# Altium schematic symbol library Schlib1.SchLib: 151 symbols (part 2 of 2)
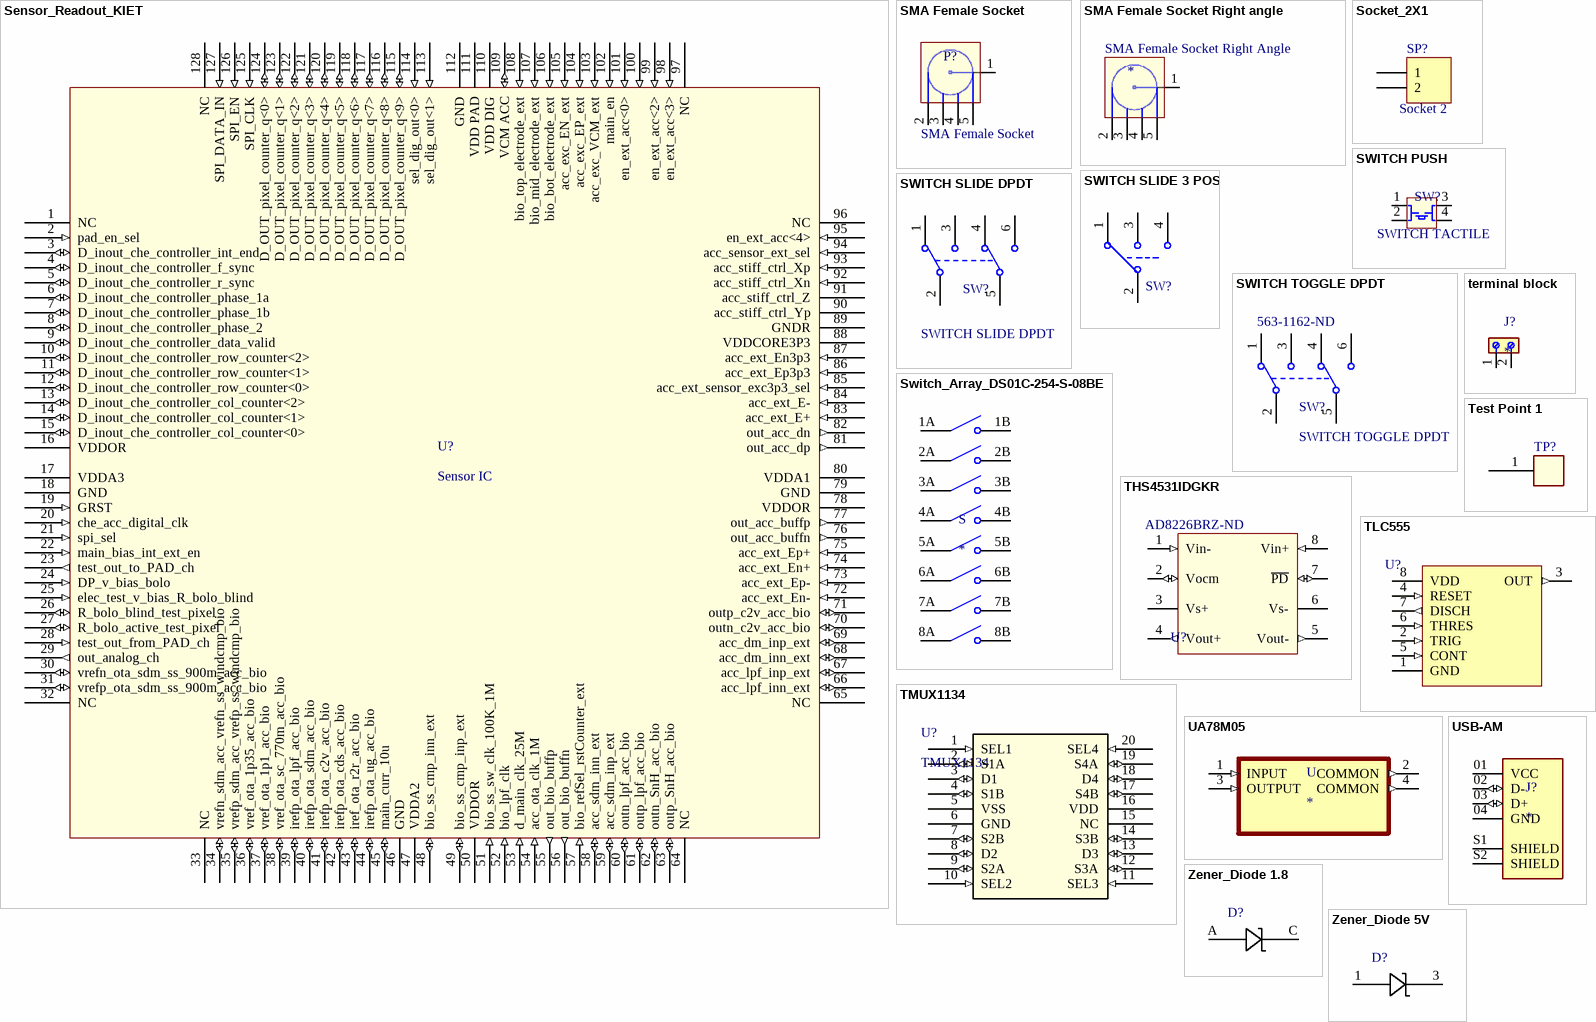
[diagram p5: symbols Sensor_Readout_KIET to Zener_Diode 5V]

## Sensor_Readout_KIET
designator U?, comment Sensor IC
Top Level Symbol of Sensor Readout IC
footprint Sensor_Readout_Kiet_CQFP_128 (CQFP, 148-Leads, Body 31.89x31.89mm, Pitch 0.80mm, IPC High Density)
pins: 1 NC "No Connect", 2 pad_en_sel (in) "Select Bit of PAD en", 3 D_inout_che_controller_int_end (io) "Integrator  End from Chemical controller for CHE", 4 D_inout_che_controller_f_sync (io) "Frame Sync from Chemical controller for CHE", 5 D_inout_che_controller_r_sync (io) "Row Sync from Chemical controller for CHE", 6 D_inout_che_controller_phase_1a (io) "Phase 1a from Chemical controller for CHE", 7 D_inout_che_controller_phase_1b (io) "Phase 1b from Chemical controller for CHE", 8 D_inout_che_controller_phase_2 (io) "Phase 2 from Chemical controller for CHE", 9 D_inout_che_controller_data_valid (io) "Data Valid from Chemical controller for CHE", 10 D_inout_che_controller_row_counter<2> (io) "Row Counter from Chemical Controller for CHE", 11 D_inout_che_controller_row_counter<1> (io) "Row Counter from Chemical Controller for CHE", 12 D_inout_che_controller_row_counter<0> (io) "Row Counter from Chemical Controller for CHE", 13 D_inout_che_controller_col_counter<2> (io) "Coloumn Counter from Chemical Controller for CHE", 14 D_inout_che_controller_col_counter<1> (io) "Coloumn Counter from Chemical Controller for CHE", 15 D_inout_che_controller_col_counter<0> (io) "Coloumn Counter from Chemical Controller for CHE", 16 VDDOR (power) "PAD Power Supply", 17 VDDA3 (power) "Analog Power Supply 1", 18 GND (power) "Common Ground", 19 GRST (in) "Global Reset of Chip", 20 che_acc_digital_clk (in) "Clock of 1MHz for Chemical Digital controller and ACC Excitation", 21 spi_sel (in) "Select bit for SPI", 22 main_bias_int_ext_en (in) "Select bit for Bias Internald or External", 23 test_out_to_PAD_ch (out) "Outputs of CDS, analog and Digital Integrator from CHE", 24 DP_v_bias_bolo (in) "Reference Voltage for DP bias Bolo for CHE", 25 elec_test_v_bias_R_bolo_blind (in) "Reference Voltage for R bolo elecrical test for CHE", 26 R_bolo_blind_test_pixel (io) "CMOS,  analog and Digital R bolo blind test pixel from CHE", 27 R_bolo_active_test_pixel (io) "CMOS,  analog and Digital R bolo active test pixel from CHE", 28 test_out_from_PAD_ch (in) "Input of CMOS, analog and Digital Integrator from CHE", 29 out_analog_ch (out) "Buffered output from CHE", 30 vrefn_ota_sdm_ss_900m_acc_bio (io) "Reference Voltage for Various Blocks", 31 vrefp_ota_sdm_ss_900m_acc_bio (io) "Reference Voltage for Various Blocks", 32 NC "No Connect", 33 NC "No Connect", 34 vrefn_sdm_acc_vrefn_ss_windcmp_bio (io) "Reference Voltage for Various Blocks", 35 vrefp_sdm_acc_vrefp_ss_windcmp_bio (io) "Reference Voltage for Various Blocks", 36 vref_ota_1p35_acc_bio (io) "Reference Voltage for Various Blocks", 37 vref_ota_1p1_acc_bio (io) "Reference Voltage for Various Blocks", 38 vref_ota_sc_770m_acc_bio (io) "Reference Voltage for Various Blocks", 39 irefp_ota_lpf_acc_bio (io) "External Currents for Various Blocks", 40 irefp_ota_sdm_acc_bio (io) "External Currents for Various Blocks", 41 irefp_ota_c2v_acc_bio (io) "External Currents for Various Blocks", 42 irefp_ota_cds_acc_bio (io) "External Currents for Various Blocks", 43 iref_ota_r2r_acc_bio (io) "External Current of Output Buffer for Various Blocks", 44 irefp_ota_ug_acc_bio (io) "External Currents for Various Blocks", 45 main_curr_10u (io) "Extenal Main Current of Bias", 46 GND (power) "Common Ground", 47 VDDA2 (power) "Analog Power Supply 1", 48 bio_ss_cmp_inn_ext (io) "External input to BIO comparator", 49 bio_ss_cmp_inp_ext (io) "External input to BIO comparator", 50 VDDOR (power) "PAD Power Supply", 51 bio_ss_sw_clk_100K_1M (in) "Clock of 100KHz-1MHz for Single slope in BIO", 52 bio_lpf_clk (in) "Clock of 1MHz for LPF for BIO", 53 d_main_clk_25M (in) "Clock Main of 25MHz for Divider and SDM for ACC", 54 acc_ota_clk_1M (in) "Clock of 1MHz for various circuits", 55 out_bio_buffp (out) "Buffered output from BIO", 56 out_bio_buffn (out) "Buffered output from BIO", 57 bio_refSel_rstCounter_ext (in) "Reset of counter and reference select of comparator in BIO", 58 acc_sdm_inn_ext (io) "External Input to Sigma Delta for ACC", 59 acc_sdm_inp_ext (io) "External Input to Sigma Delta for ACC", 60 outn_lpf_acc_bio (io) "Outputs of LPF Block from ACC", 61 outp_lpf_acc_bio (io) "Outputs of LPF Block from ACC", 62 outn_SnH_acc_bio (io) "Outputs of SnH Block from ACC", 63 outp_SnH_acc_bio (io) "Outputs of SnH Block from ACC", 64 NC "No Connect", 65 NC "No Connect", 66 acc_lpf_inn_ext (io) "External Input to low pass filter for ACC", 67 acc_lpf_inp_ext (io) "External Input to low pass filter for ACC", 68 acc_dm_inn_ext (io) "External Input to Demodulator for ACC", 69 acc_dm_inp_ext (io) "External Input to Demodulator for ACC", 70 outn_c2v_acc_bio (io) "Outputs of C2V Block from ACC", 71 outp_c2v_acc_bio (io) "Outputs of C2V Block from ACC", 72 acc_ext_En- (in) "Voltage Reference for Excitation for ACC", 73 acc_ext_Ep- (in) "Voltage Reference for Excitation for ACC", 74 acc_ext_En+ (in) "Voltage Reference for Excitation for ACC", 75 acc_ext_Ep+ (in) "Voltage Reference for Excitation for ACC", 76 out_acc_buffn (out) "Buffered output from ACC", 77 out_acc_buffp (out) "Buffered output from ACC", 78 VDDOR (power) "PAD Power Supply", 79 GND (power) "Common Ground", 80 VDDA1 (power) "Analog Power Supply 1", 81 out_acc_dp (out) "Output SDM 25MHz from ACC", 82 out_acc_dn (out) "Output SDM 25MHz from ACC", 83 acc_ext_E+ (in) "External Excitation Pulses for ACC of different amplitude", 84 acc_ext_E- (in) "External Excitation Pulses for ACC of different amplitude", 85 acc_ext_sensor_exc3p3_sel (in) "Select for Excitation Ep and EN Internal or External", 86 acc_ext_Ep3p3 (in) "External Excitation Pulses for ACC", 87 acc_ext_En3p3 (in) "External Excitation Pulses for ACC", 88 VDDCORE3P3 (power) "Supply to 3.3 logic in ACC", 89 GNDR (power) "Common Ground for 3.3V", 90 acc_stiff_ctrl_Yp "Stiff control 3.3V Voltages for Sensor ACC", 91 acc_stiff_ctrl_Z "Stiff control 3.3V Voltages for Sensor ACC", 92 acc_stiff_ctrl_Xn (in) "Stiff control 3.3V Voltages for Sensor ACC", 93 acc_stiff_ctrl_Xp (in) "Stiff control 3.3V Voltages for Sensor ACC", 94 acc_sensor_ext_sel (in) "Sensor Select of ACC", 95 en_ext_acc<4> (in) "Signals for test cases for ACC/BIO and signals for CHE", 96 NC "No Connect", 97 NC "No Connect", 98 en_ext_acc<3> (in) "Signals for test cases for ACC/BIO and signals for CHE", 99 en_ext_acc<2> (in) "Signals for test cases for ACC/BIO and signals for CHE", 100 en_ext_acc<1> (in) "Signals for test cases for ACC/BIO and signals for CHE", 101 en_ext_acc<0> (in) "Signals for test cases for ACC/BIO and signals for CHE", 102 main_en (in) "Enable of Various Blocks", 103 acc_exc_VCM_ext (in) "ACC external VCM excitation", 104 acc_exc_EP_ext (in) "ACC external EP excitation", 105 acc_exc_EN_ext (in) "ACC external EN excitation", 106 bio_bot_electrode_ext (in) "BIO external sensor bottom electrode", 107 bio_mid_electrode_ext (in) "BIO external sensor middle electrode", 108 bio_top_electrode_ext (in) "BIO external sensor top electrode", 109 VCM ACC (io) "Common Mode 900mv", 110 VDD DIG (power) "Power Supply for Digital", 111 VDD PAD (power) "Power Supply for PADs", 112 GND (power) "Common Ground", 113 sel_dig_out<1> (in) "Select Mux Bits for Digital Bio/Acc/Che", 114 sel_dig_out<0> (in) "Select Mux Bits for Digital Bio/Acc/Che", 115 D_OUT_pixel_counter_q<9> (io) "Digital I/O of Bio/Acc/Che", 116 D_OUT_pixel_counter_q<8> (io) "Digital I/O of Bio/Acc/Che", 117 D_OUT_pixel_counter_q<7> (io) "Digital I/O of Bio/Acc/Che", 118 D_OUT_pixel_counter_q<6> (io) "Digital I/O of Bio/Acc/Che", 119 D_OUT_pixel_counter_q<5> (io) "Digital I/O of Bio/Acc/Che", 120 D_OUT_pixel_counter_q<4> (io) "Digital I/O of Bio/Acc/Che", 121 D_OUT_pixel_counter_q<3> (io) "Digital I/O of Bio/Acc/Che", 122 D_OUT_pixel_counter_q<2> (io) "Digital I/O of Bio/Acc/Che", 123 D_OUT_pixel_counter_q<1> (io) "Digital I/O of Bio/Acc/Che", 124 D_OUT_pixel_counter_q<0> (io) "Digital I/O of Bio/Acc/Che", 125 SPI_CLK (in) "Clock for SPI", 126 SPI_EN (in) "Enable of SPI", 127 SPI_DATA_IN (in) "Serial input data for SPI", 128 NC "No Connect"

## SMA Female Socket
designator P?
CONN SMA JACK STR 50 OHM PCB; Supplier 1: Digi-Key; Supplier Part Number 1: ACX1230-ND; Value: SMA Female Socket
footprint SMA Female Socket (SMA Connector Jack, Female Socket 50 Ohm Through Hole Solder)
pins: 1, 2, 3, 4, 5

## SMA Female Socket Right angle
designator *, comment SMA Female Socket Right Angle
CONN SMA JACK STR 50 OHM PCB; Supplier Part Number 1: ARFX1232-ND; Supplier 1: Digi-Key; Value: SMA Female Socket Right Angle
footprint SMA_F_RA (SMA Connector Jack, Female Socket 50Ohm Through Hole, Right Angle Solder)
pins: 1, 2, 3, 4, 5

## Socket_2X1
designator SP?, comment Socket 2
SOCKET 2POS .100" SINGL TIN; LatestRevisionDate: 17-Jul-2002; LatestRevisionNote: Re-released for DXP Platform.; Publisher: Altium Limited; Supplier 1: Digi-Key; Supplier Part Number 1: ED11155-ND; Value: Socket 2
footprint HDR1X2_R (Connector; Header; 2 Position Contact Shape Circular)
pins: 1, 2

## SWITCH PUSH
designator SW?, comment SWITCH TACTILE
SWITCH TACTILE SPST-NO 0.05A 24V_Tactile Switch SPST-NO Top Actuated Through Hole; Supplier 1: Digi-Key; Supplier Part Number 1: 450-1650-ND; Value: SWITCH TACTILE
footprint SWITCH TACTILE (SWITCH TACTILE SPST-NO 0.05A 24V_Tactile Switch SPST-NO Top Actuated Through Hole)
pins: 1, 2, 3, 4

## SWITCH SLIDE 3 POS
designator SW?, comment SWITCH SLIDE DPDT  (value not drawn)
Slide Switch SP3T Through Hole; Supplier 1: Digi-Key; Supplier Part Number 1: CKN9543-ND; Value: SWITCH SLIDE DPDT
footprint OS102011MS8QP1
pins: 1 Con 1 "Short pin 1-2", 2 Common "Common output", 3 Con 2 "Short pin 2-3", 4 Con 3 "Short 2-4"

## SWITCH SLIDE DPDT
designator SW?
Slide Switch DPDT Through Hole, Right Angle; Supplier 1: Digi-Key; Supplier Part Number 1: CKN5054-ND; Value: SWITCH SLIDE DPDT
footprint SWITCH SLIDE DPDT (Slide Switch DPDT Through Hole, Right Angle)
pins: 1 COMMON1, 2 NC1, 3 NO1, 4 NC2, 5 COMMON2, 6 NO2

## SWITCH TOGGLE DPDT
designator SW?  Supplier Part Number 1: 563-1162-ND
SWITCH TOGGLE DPDT 50MA 48V Toggle Switch DPDT Through Hole; Supplier 1: Digi-Key
footprint SWITCH TOGGLE DPDT (SWITCH TOGGLE DPDT 50MA 48V Toggle Switch DPDT Through Hole)
pins: 1 COMMON1, 2 NC1, 3 NO1, 4 NC2, 5 COMMON2, 6 NO2

## Switch_Array_DS01C-254-S-08BE
designator S
1 ~ 12 Positions, Through Hole, 2.54 mm Pitch, Slide Actuator, DIP Switch; MP: DS01C-254-S-08BE; MF: CUI Devices; Mouser-Purchase-URL: https://snapeda.com/shop?store=Mouser&id=4467338; Package: None; Value: *; Arrow_Electronics-Purchase-URL: https://snapeda.com/shop?store=Arrow+Electronics&id=4467338; Availability: Unavailable; Price: None; DigiKey-Purchase-URL: https://snapeda.com/shop?store=DigiKey&id=4467338; CUI_purchase_URL: https://www.cuidevices.com/product/switches/dip-switches/ds01-254-series?utm_source=snapeda.com&utm_medium=referral&utm_campaign=snapedaBOM; SnapEDA_Link: https://www.snapeda.com/parts/DS01C-254-S-08BE/CUI%20Devices/view-part/4467338/?ref=snap
footprint Switch_array_SW_DS01C-254-S-08BE
pins: 1A COM1, 1B NO1, 2A COM2, 2B NO2, 3A COM3, 3B NO3, 4A COM4, 4B NO4, 5A COM5, 5B NO5, 6A COM6, 6B NO6, 7A COM7, 7B NO7, 8A COM8, 8B NO8

## terminal block
designator J?
Fio de 2 posiÃ§Ãµes para bloco de terminais da placa horizontal com furo de passagem de 0,197 (5,00 mm) da placa; MP: 691111710002; MF: Wurth Electronics; Package: None; Availability: In Stock; Price: None; Purchase-URL: https://pricing.snapeda.com/search/part/691111710002/?ref=eda; Check_prices: https://www.snapeda.com/parts/691111710002/Wurth+Electronics+Inc./view-part/?ref=eda; SnapEDA_Link: https://www.snapeda.com/parts/691111710002/Wurth+Electronics+Inc./view-part/?ref=snap; Value: *
footprint 2 pin terminal block
pins: 1, 2

## Test Point 1
designator TP?, comment Test Point  (value not drawn)
Black PC Test Point, Compact Phosphor Bronze, Silver Plating 0.063" (1.60mm) Hole Diameter Mounting Type; Supplier Part Number 1: 36-5006-ND; Value: Test Point; Supplier 1: Digi-Key
footprint 36-5006-ND (Black PC Test Point, Compact Phosphor Bronze, Silver Plating 0.063" (1.60mm) Hole Diameter Mounting Type)
pins: 1

## THS4531IDGKR
designator U?  Supplier Part Number 1: AD8226BRZ-ND
Differential Amplifier 1 Circuit Differential, Rail-to-Rail 8-VSSOP; Supplier 1: Digi-Key
footprint AD8138 (SOIC, 8-Leads, Body 5.00x4.00mm, Pitch 1.27mm, IPC High Density)
pins: 1 Vin- (in), 2 Vocm (io), 3 Vs+ (power), 4 Vout+ (out), 5 Vout- (out), 6 Vs- (power), 7 ~{PD} (io), 8 Vin+ (in)

## TLC555
designator U?, comment IC OSC SINGLE TIMER 2.1MHZ 8-DIP  (value not drawn)
555 Type, Timer/Oscillator (Single) IC 2.1MHz 8-PDIP; Supplier 1: Digi-Key; Supplier Part Number 1: 296-1857-5-ND
footprint TLC555_DIP8
pins: 1 GND (power), 2 TRIG (in), 3 OUT (out), 4 RESET (in), 5 CONT (in), 6 THRES (in), 7 DISCH (out), 8 VDD (power)

## TMUX1134
designator U?
4 Circuit IC Switch 2:1 4Ohm 20-TSSOP; Supplier 1: Digi-Key; Value: TMUX1134; Supplier Part Number 1: 296-TMUX1134PWRCT-ND
footprint TMUX1134PWR (4 Circuit IC Switch 2:1 4Ohm 20-TSSOP)
pins: 1 SEL1 (in), 2 S1A (io), 3 D1 (io), 4 S1B (io), 5 VSS (power), 6 GND (power), 7 S2B (io), 8 D2 (io), 9 S2A (io), 10 SEL2 (in), 11 SEL3 (in), 12 S3A (io), 13 D3 (io), 14 S3B (io), 15 NC, 16 VDD (power), 17 S4B (io), 18 D4 (io), 19 S4A (io), 20 SEL4 (in)

## UA78M05
designator U
500-mA, 30-V, linear voltage regulator 4-SOT-223 0 to 125; MF: Texas Instruments; MP: UA78M05CDCY; Price: None; Package: SOT-223-4 Texas Instruments; Texas_Instruments-Purchase-URL: https://snapeda.com/shop?store=Texas+Instruments&id=7008; Value: *; SnapEDA_Link: https://www.snapeda.com/parts/UA78M05CDCY/Texas%20Instruments/view-part/7008/?ref=snap; DigiKey-Purchase-URL: https://snapeda.com/shop?store=DigiKey&id=7008; Availability: Warning
footprint UA78M05
pins: 1 INPUT (in), 2 COMMON (out), 3 OUTPUT (in), 4 COMMON (out)

## USB-AM
designator J?
USB Connectors USB 2.0 Interface, Type A; MP: USB-AM-S-F-B-SM1-R-TR; MF: Samtec; Price: None; SnapEDA_Link: https://www.snapeda.com/parts/USB-AM-S-F-B-SM1-R-TR/Samtec/view-part/3402725/?ref=snap; Availability: Not in stock; Package: None; Check_prices: https://www.snapeda.com/parts/USB-AM-S-F-B-SM1-R-TR/Samtec/view-part/3402725/?ref=eda; Value: *; Purchase-URL: https://pricing.snapeda.com/search/part/USB-AM-S-F-B-SM1-R-TR/?ref=eda
footprint USB-AM
pins: 01 VCC (power), 02 D- (io), 03 D+ (io), 04 GND (power), S1 SHIELD, S2 SHIELD

## Zener_Diode 1.8
designator D?, comment Zener Diode 1.8V  (value not drawn)
Zener Diode 1.8V 500mW ±5% Surface Mount SOD-123; MP: PLVA650A,215; MF: NXP Semiconductors; SnapEDA_Link: https://www.snapeda.com/parts/PLVA650A,215/NXP%20Semiconductors/view-part/4793192/?ref=snap; DigiKey-Purchase-URL: https://snapeda.com/shop?store=DigiKey&id=4793192; Mouser-Purchase-URL: https://snapeda.com/shop?store=Mouser&id=4793192; Arrow_Electronics-Purchase-URL: https://snapeda.com/shop?store=Arrow+Electronics&id=4793192; Package: None; Arrow_Purchase_URL: *; Value: *; Supplier Part Number 1: MMSZ4678-TPMSCT-ND; Supplier 1: Digi-Key
footprint zener1.8_SODFL3718X108N
pins: A, C

## Zener_Diode 5V
designator D?, comment Zener Diode 5V  (value not drawn)
Diode Zener Single 5V 4% 250mW Automotive 3-Pin TO-236AB T/R; MP: PLVA650A,215; MF: NXP Semiconductors; SnapEDA_Link: https://www.snapeda.com/parts/PLVA650A,215/NXP%20Semiconductors/view-part/4793192/?ref=snap; DigiKey-Purchase-URL: https://snapeda.com/shop?store=DigiKey&id=4793192; Mouser-Purchase-URL: https://snapeda.com/shop?store=Mouser&id=4793192; Arrow_Electronics-Purchase-URL: https://snapeda.com/shop?store=Arrow+Electronics&id=4793192; Package: None; Arrow_Purchase_URL: *; Value: *; Supplier Part Number 1: 1727-5167-1-ND; Supplier 1: Digi-Key
footprint zener5V_SOT95P230X110-3N
pins: 1 A, 3 C